# Altium footprint library MyPcbLib.PcbLib: 65 footprints (part 5 of 5)
Each footprint in its own frame and in the unit in brackets; x right, y up, seen from the top. Pads: shape width x height; smd on the part's side, far side on the other; paste and mask are expansions set on the pad; w line width, h text height; cw(c..) or ccw(c..) is an arc to the next point about the centre after c.
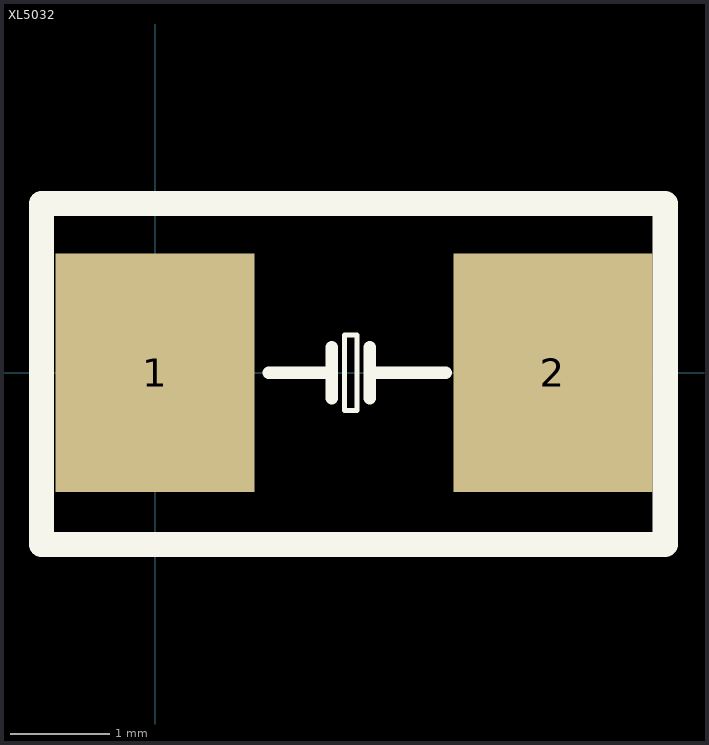
[diagram p4: the footprint, top view; thin cyan lines are the x and y axes]

## XL5032 [mm]
height 1.5
pads (2):
  rect 2x2.4 smd: 1(0,0) 2(4,0)
Top Overlay:
  lines w0.051: 1.905,-0.381 1.905,-0.127 1.905,0.381 2.032,0.381 2.032,-0.381 1.905,-0.381
  lines w0.127: 1.143,0 1.778,0 ; 1.778,-0.254 1.778,0.254 ; 2.159,-0.254 2.159,0.254 ; 2.159,0 2.921,0
  lines w0.254: 4.013,1.702 5.131,1.702 5.131,-1.727 -1.143,-1.727 -1.143,1.702 4.064,1.702
3D body: height 1.5, standoff 0, extent -0.838,-1.727 4.75,1.702